# EAGLE library part 7PIN (library Connectors)
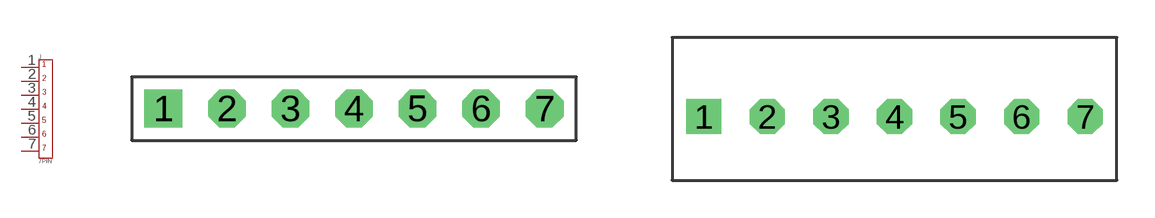
[diagram p1: symbol with the pads of 7PIN_HEADER_PITCH2.54MM_TH; footprints 7PIN_HEADER_PITCH2.54MM_TH, 7PIN_HEADER_VERT_PITCH2.54MM_TH]

Designator prefix J

## 7PIN_HEADER_PITCH2.54MM_TH  [7PIN_HEADER_PITCH2.54MM_TH]
1  1  pas
2  2  pas
3  3  pas
4  4  pas
5  5  pas
6  6  pas
7  7  pas

## 7PIN_HEADER_VERT_PITCH2.54MM_TH  [7PIN_HEADER_VERT_PITCH2.54MM_TH]
Pads as for 7PIN_HEADER_PITCH2.54MM_TH

## Footprint 7PIN_HEADER_PITCH2.54MM_TH (pad centres in mm)
drill 1 square: 1 -7.62,0
drill 1 octagon: 2 -5.08,0; 3 -2.54,0; 4 0,0; 5 2.54,0; 6 5.08,0; 7 7.62,0

## Footprint 7PIN_HEADER_VERT_PITCH2.54MM_TH (pad centres in mm)
drill 0.9 square: 1 -7.62,0
drill 0.9 octagon: 2 -5.08,0; 3 -2.54,0; 4 0,0; 5 2.54,0; 6 5.08,0; 7 7.62,0